# Altium footprint library PcbLib1.PcbLib: 28 footprints (part 2 of 2)
Each footprint in its own frame and in the unit in brackets; x right, y up, seen from the top. Pads: shape width x height; smd on the part's side, far side on the other; paste and mask are expansions set on the pad; w line width, h text height; cw(c..) or ccw(c..) is an arc to the next point about the centre after c.
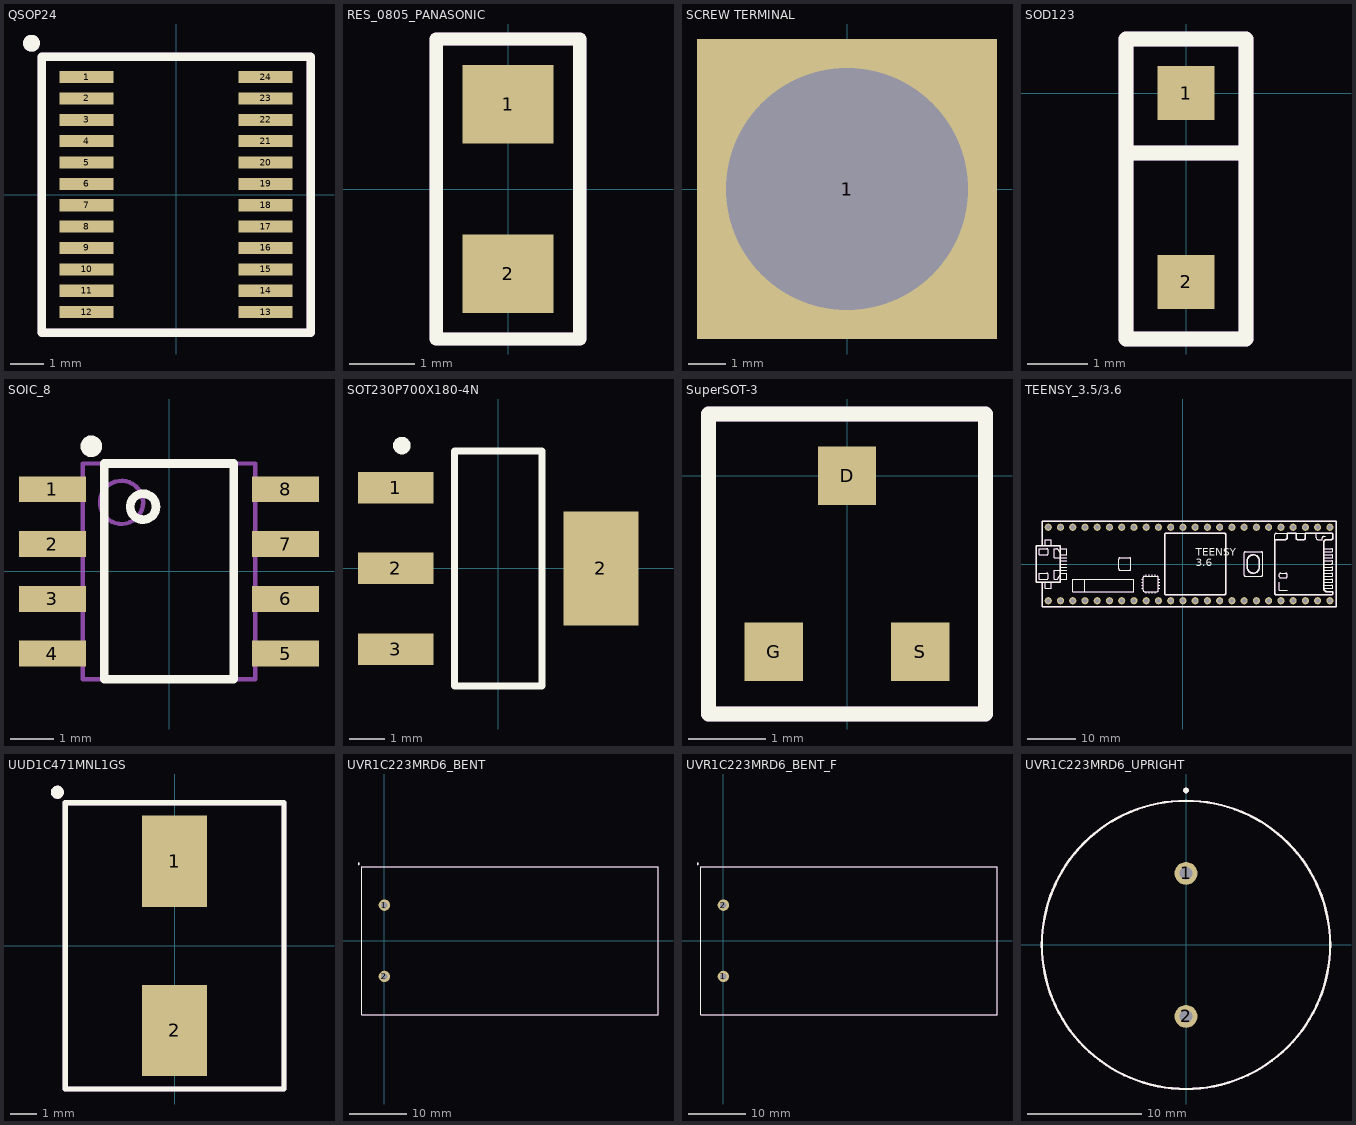
[diagram p1: the footprints below, top view; thin cyan lines are the x and y axes]

## QSOP24 [mm]
pads (24):
  rect 1.6x0.36 smd mask+0.06: 1(-2.66,3.492) 2(-2.66,2.857) 3(-2.66,2.222) 4(-2.66,1.587) 5(-2.66,0.953) 6(-2.66,0.318) 7(-2.66,-0.318) 8(-2.66,-0.953) 9(-2.66,-1.587) 10(-2.66,-2.222) 11(-2.66,-2.857) 12(-2.66,-3.492) 13(2.66,-3.492) 14(2.66,-2.857) 15(2.66,-2.222) 16(2.66,-1.587) 17(2.66,-0.953) 18(2.66,-0.318) 19(2.66,0.318) 20(2.66,0.953) 21(2.66,1.587) 22(2.66,2.222) 23(2.66,2.857) 24(2.66,3.492)
Top Overlay:
  circle w0.25: c-4.3,4.5 r0.125
  lines w0.254: -4,-4.1 -4,4.1 4,4.1 4,-4.1 -4,-4.1
Mechanical 16:
  circle w0.25: c-4.3,4.5 r0.125
  lines w0.254: -4,-4.1 -4,4.1 4,4.1 4,-4.1 -4,-4.1
  text ".Designator" at -1.346,-0.538 h1.52

## RES_0805_PANASONIC [mm]
pads (2):
  rect 1.4x1.2 smd mask+0.06: 1(0,1.3) 2(0,-1.3)
Top Overlay:
  lines w0.2: -1.1,-2.3 1.1,-2.3 1.1,2.3 -1.1,2.3 -1.1,-2.3
Mechanical 16:
  lines w0.2: -1.1,-2.3 1.1,-2.3 1.1,2.3 -1.1,2.3 -1.1,-2.3
  text ".Designator" at 0.513,-0.946 h1

## SCREW TERMINAL [mm]
pads (1):
  rect 8x8 hole 6.45 mask+0.06: 1(0,0)

## SOD123 [mm]
pads (2):
  rect 0.95x0.9 smd mask+0.06: 1(0,0) 2(0,-3.15)
Top Overlay:
  lines w0.254: -0.9,-1 0.9,-1 ; -1,-4.1 1,-4.1 1,0.9 -1,0.9 -1,-4.1
Mechanical 16:
  lines w0.254: -0.9,-1 0.9,-1 ; -1,-4.1 1,-4.1 1,0.9 -1,0.9 -1,-4.1
  text ".Designator" at 0.413,-3.346 h1

## SOIC_8 [mm] "SOIC, 8-Leads, Body 4.91x3.90mm, Pitch 1.27mm, IPC Medium Density"
height 1.75
pads (8):
  rect 1.55x0.6 smd mask+0.06: 1(-2.7,1.905) 2(-2.7,0.635) 3(-2.7,-0.635) 4(-2.7,-1.905) 5(2.7,-1.905) 6(2.7,-0.635) 7(2.7,0.635) 8(2.7,1.905)
Top Overlay:
  circle w0.2: c-0.6,1.5 r0.3
  circle w0.25: c-1.8,2.9 r0.125
  lines w0.2: -1.5,-2.5 -1.5,2.5 1.5,2.5 1.5,-2.5 -1.5,-2.5
Mechanical 16:
  circle w0.1: c-1.1,1.6 r0.5
  lines w0.1: -2,-2.5 2,-2.5 2,2.5 -2,2.5 -2,-2.5
  text ".Designator" at -1.446,-1.046 h1.5
3D body "SOIC_8.step": height 1.75, standoff 0, extent -2.997,-2.5 2.997,2.5

## SOT230P700X180-4N [mm] "SOT223, 4-Leads, Body 6.50x7.00mm (avg), Pitch 2.30mm, IPC Medium Density"
height 1.8
pads (4):
  rect 2.15x0.9 smd mask+0.06: 1(-2.925,2.3) 2(-2.925,0) 3(-2.925,-2.3)
  rect 2.15x3.25 smd mask+0.06: 2(2.925,0)
Top Overlay:
  circle w0.25: c-2.75,3.5 r0.125
  lines w0.2: -1.25,-3.35 1.25,-3.35 1.25,3.35 -1.25,3.35 -1.25,-3.35
3D body "SOT230P700X180-4N.step": height 1.8, standoff 0, extent -3.5,-3.35 3.5,3.35

## SuperSOT-3 [mm] "SuperSOT-3"
pads (3):
  rect 0.76x0.76 smd mask+0.06: D(0,0) G(-0.95,-2.29) S(0.95,-2.29)
Top Overlay:
  lines w0.2: -1.8,-3.1 1.8,-3.1 1.8,0.8 -1.8,0.8 -1.8,-3.1
Mechanical 16:
  lines w0.2: -1.8,-3.1 1.8,-3.1 1.8,0.8 -1.8,0.8 -1.8,-3.1
  text ".Designator" at 0.413,-2.246 h1

## TEENSY_3.5/3.6 [mil]
pads (48):
  round 58 hole 37.4 mask+2.36: 0/RX(-1000,-300) 1/TX(-900,-300) 2(-800,-300) 3/CANTX(-700,-300) 3V3(300,-300) 3V3_LO(-900,300) 4/CANRX(-600,-300) 5(-500,-300) 6(-400,-300) 7(-300,-300) 8(-200,-300) 9/CS(-100,-300) 10/CS(0,-300) 11/MOSI(100,-300) 12/MISO(200,-300) 13/SCK(200,300) 14/A0(100,300) 15/A1(0,300) 16/A2(-100,300) 17/A3(-200,300) 18/A4/SDA(-300,300) 19/A5/SCL(-400,300) 20/A6(-500,300) 21/A7(-600,300) 21/DAC0(500,300) 22/A8(-700,300) 23/A9(-800,300) 24(400,-300) 25(500,-300) 26(600,-300) 27(700,-300) 28(800,-300) 29(900,-300) 30(1000,-300) 31/A12(1100,-300) 32/A13(1200,-300) 33/A14(1200,300) 34/A15(1100,300) 35/A16(1000,300) 36/A17(900,300) 37/A18(800,300) 38/A19(700,300) 39/A20(600,300) A22/DAC1(400,300) AGND(-1000,300) GND(-1100,-300) GND2(300,300) VIN(-1100,300)
Top Overlay:
  drawing of 235 lines, arcs and shapes, not listed
  text "3.6" at 106.25,-43.75 h108.5
  text "TEENSY" at 106.25,43.75 h108.5
Mechanical 16:
  drawing of 235 lines, arcs and shapes, not listed
  text "3.6" at 106.25,-43.75 h108.5
  text "TEENSY" at 106.25,43.75 h108.5

## UUD1C471MNL1GS [mm] "UUD1C471MNL1GS"
pads (2):
  rect 2.5x3.5 smd mask+0.06: 1(0,3.25) 2(0,-3.25)
Top Overlay:
  circle w0.25: c-4.5,5.9 r0.125
  lines w0.2: -4.2,-5.5 4.2,-5.5 4.2,5.5 -4.2,5.5 -4.2,-5.5
Mechanical 16:
  circle w0.25: c-4.5,5.9 r0.125
  lines w0.2: -4.2,-5.5 4.2,-5.5 4.2,5.5 -4.2,5.5 -4.2,-5.5
  text ".Designator" at 0.738,-0.946 h1.52

## UVR1C223MRD6_BENT [mm] "UVR1C223MRD6"
pads (2):
  round 2 hole 1.1 mask+0.06: 1(0,6.25) 2(0,-6.25)
Top Overlay:
  circle w0.2: c-4.5,13.5 r0.125
  lines w0.2: -4,-13 -4,13 48,13 48,-13 -4,-13
Mechanical 16:
  circle w0.2: c-4.5,13.5 r0.125
  lines w0.2: -4,-13 -4,13 48,13 48,-13 -4,-13
  text ".Designator" at 12.254,-1.488 h1.52
3D body: height 25, standoff 0, extent 7,-12.495 47,12.495

## UVR1C223MRD6_BENT_F [mm] "UVR1C223MRD6"
pads (2):
  round 2 hole 1.1 mask+0.06: 1(0,-6.25) 2(0,6.25)
Top Overlay:
  circle w0.2: c-4.5,13.5 r0.125
  lines w0.2: -4,-13 -4,13 48,13 48,-13 -4,-13
Mechanical 16:
  circle w0.2: c-4.5,13.5 r0.125
  lines w0.2: -4,-13 -4,13 48,13 48,-13 -4,-13
  text ".Designator" at 12.254,-1.488 h1.52
3D body: height 25, standoff 0, extent 7,-12.495 47,12.495

## UVR1C223MRD6_UPRIGHT [mm] "UVR1C223MRD6"
pads (2):
  round 2 hole 1.1 mask+0.06: 1(0,6.25) 2(0,-6.25)
Top Overlay:
  circle w0.2: c0,0 r12.6
  circle w0.25: c0,13.5 r0.125
Mechanical 16:
  circle w0.2: c0,0 r12.6
  circle w0.25: c0,13.5 r0.125
  text ".Designator" at -2.746,-0.638 h1.52
3D body: height 40, standoff 0, extent -12.5,-12.495 12.5,12.495